# Altium schematic symbol library RKJXT1F42001.SchLib: 1 symbol
Pins are listed as number, name and electrical type; pins without a type are passive.

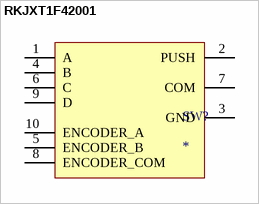
[diagram p0: symbol RKJXT1F42001]

## RKJXT1F42001
designator SW?
pins: 1 A, 2 PUSH, 3 GND, 4 B, 5 ENCODER_B, 6 C, 7 COM, 8 ENCODER_COM, 9 D, 10 ENCODER_A